# EAGLE library part RADIOMETRIX-HX1-CUSTOM (library custom-ds)
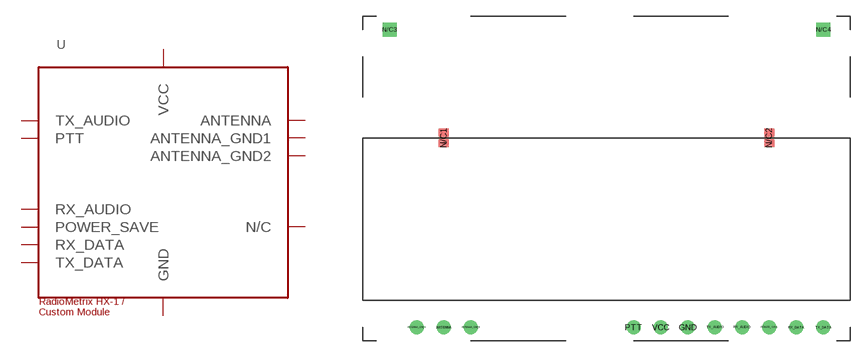
[diagram p9: symbol with the pads of RADIOMETRIX-HX1-CUSTOM; footprint RADIOMETRIX-HX1-CUSTOM]

Designator prefix U

## RADIOMETRIX-HX1-CUSTOM  [RADIOMETRIX-HX1-CUSTOM]
ANTENNA  ANTENNA
ANTENNA_GND1  ANTENNA_GND1
ANTENNA_GND2  ANTENNA_GND2
GND  GND  sup
N/C1  N/C  nc
N/C2  N/C  nc
N/C3  N/C  nc
N/C4  N/C  nc
POWER_SAVE  POWER_SAVE  in
PTT  PTT  in
RX_AUDIO  RX_AUDIO  out
RX_DATA  RX_DATA  in
TX_AUDIO  TX_AUDIO  in
TX_DATA  TX_DATA  out
VCC  VCC  sup

## Footprint RADIOMETRIX-HX1-CUSTOM (pad centres in mm)
A universal footprint for a Radiometrix HX-1 transmitter module, or a custom transmitter footprint.
drill 0.8: ANTENNA -15.24,-12.7; ANTENNA_GND1 -17.78,-12.7; ANTENNA_GND2 -12.7,-12.7; GND 7.62,-12.7; POWER_SAVE 15.24,-12.7; PTT 2.54,-12.7; RX_AUDIO 12.7,-12.7; RX_DATA 17.78,-12.7; TX_AUDIO 10.16,-12.7; TX_DATA 20.32,-12.7; VCC 5.08,-12.7
smd 0.914 x 1.778: N/C1 -15.24,5.08; N/C2 15.24,5.08
drill 0.8 square: N/C3 -20.32,15.24; N/C4 20.32,15.24